# Altium footprint library 器件封装.PCBLIB: 225 footprints (part 1 of 15)
Each footprint in its own frame and in the unit in brackets; x right, y up, seen from the top. Pads: shape width x height; smd on the part's side, far side on the other; paste and mask are expansions set on the pad; w line width, h text height; cw(c..) or ccw(c..) is an arc to the next point about the centre after c.
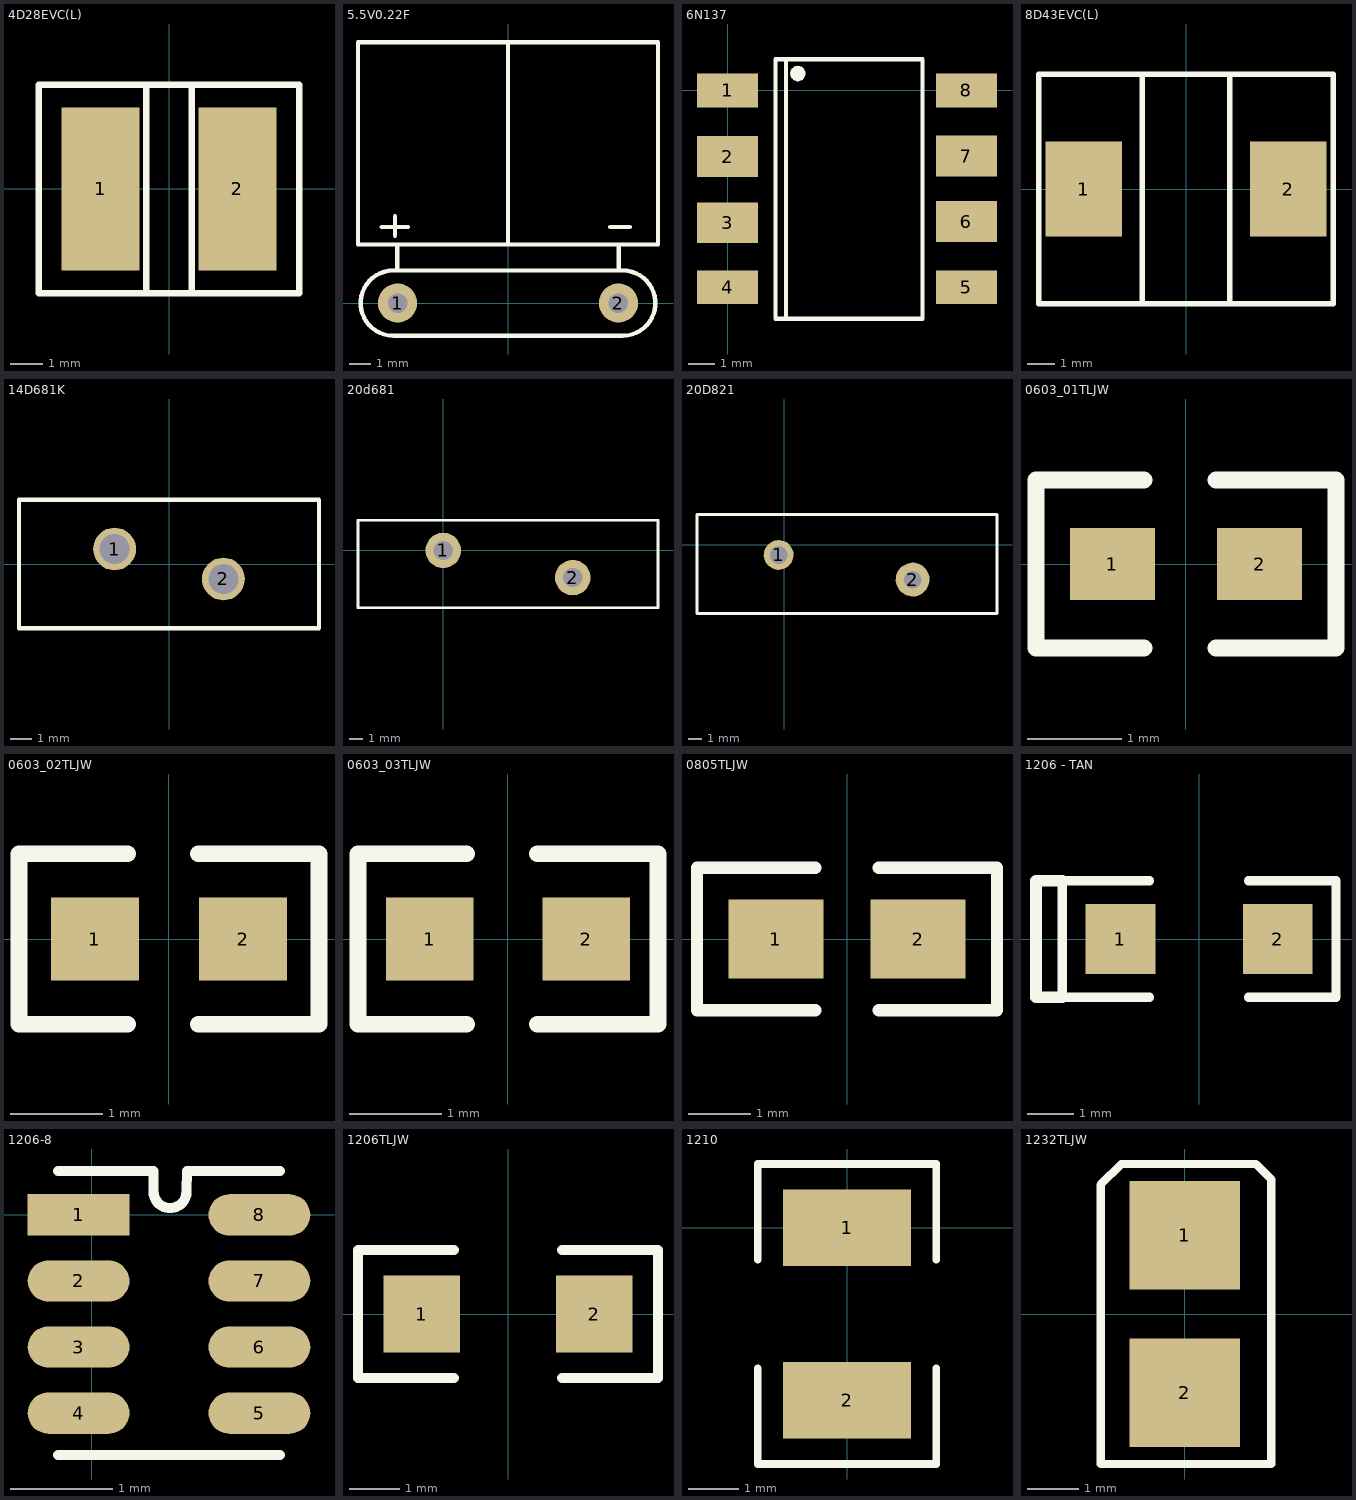
[diagram p0: the footprints below, top view; thin cyan lines are the x and y axes]

## 4D28EVC(L) [mm]
pads (2):
  rect 2.4x5 smd: 1(-2.1,0) 2(2.1,0)
TopOverlay:
  lines w0.2: -0.7,-3.2 -0.7,3.2 ; 0.7,-3.2 0.7,3.2 ; -4,-3.2 4,-3.2 4,3.2 -4,3.2 -4,-3.2

## 5.5V0.22F [mm]
pads (2):
  round 1.8 hole 0.9: 1(-5.08,0) 2(5.08,0)
TopOverlay:
  lines w0.2: -5.8,3.5 -4.6,3.5 ; -5.2,3.1 -5.2,4 ; -5.1,1.5 -5.1,2.7 ; 0,2.8 0,12 ; 4.7,3.5 5.6,3.5 ; 5.1,1.5 5.1,2.7 ; -6.9,2.7 6.9,2.7 6.9,12 -6.9,12 -6.9,2.7 ; -5.28,-1.5 cw(c-5.28,0) -5.28,1.5 5.28,1.5 cw(c5.28,0) 5.28,-1.5 -5.28,-1.5

## 6N137 [mm]
pads (9):
  rect 2.35x1.3 smd: 1(0,0) 4(0,-7.56) 5(9.17,-7.56) 8(9.17,0)
  rect 2.35x1.57 smd: 2(0,-2.54) 3(0,-5.08) 6(9.17,-5.04) 7(9.17,-2.52)
  round 0.6 on Top Overlay: ""(2.7,0.65)
TopOverlay:
  lines w0.16: 1.84,-8.77 1.84,1.2 7.47,1.2 ; 1.86,-8.77 7.48,-8.77 ; 2.24,-8.77 2.24,1.18 ; 7.49,-8.77 7.49,1.2

## 8D43EVC(L) [mm]
pads (2):
  rect 2.8x3.5 smd: 1(-3.75,0) 2(3.75,0)
TopOverlay:
  lines w0.2: -1.6,-4.2 -1.6,4.2 ; 1.6,-4.2 1.6,4.2 ; -5.4,-4.2 -5.4,4.2 5.4,4.2 5.4,-4.2 -5.4,-4.2

## 14D681K [mm]
pads (2):
  round 2 hole 1.4: 1(-2.54,0.7) 2(2.54,-0.7)
TopOverlay:
  lines w0.2: -7,-3 7,-3 7,3 -7,3 -7,-3

## 20d681 [mm]
pads (2):
  round 2.6 hole 1.4: 1(0,0) 2(9.5,-2)
TopOverlay:
  lines w0.2: -6.25,-4.2 15.75,-4.2 15.75,2.2 -6.25,2.2 -6.25,-4.2

## 20D821 [mm]
pads (2):
  round 2.2 hole 1.3: 1(-0.399,-0.764)
  round 2.5 hole 1.3: 2(9.489,-2.584)
TopOverlay:
  lines w0.2: -6.423,-5.081 15.715,-5.081 15.715,2.219 -6.423,2.219 -6.423,-5.081

## 0603_01TLJW [mm]
pads (2):
  rect 0.9x0.762 smd: 1(-0.78,0) 2(0.78,0)
TopOverlay:
  lines w0.18: -0.445,-0.889 -1.587,-0.889 -1.587,0.889 -0.445,0.889 ; 0.318,-0.889 1.588,-0.889 1.588,0.889 0.318,0.889

## 0603_02TLJW [mm]
pads (2):
  rect 0.95x0.9 smd: 1(-0.8,0) 2(0.8,0)
TopOverlay:
  lines w0.18: -0.444,-0.92 -1.62,-0.92 -1.62,0.92 -0.444,0.92 ; 0.318,-0.92 1.62,-0.92 1.62,0.92 0.318,0.92

## 0603_03TLJW [mm]
pads (2):
  rect 0.95x0.9 smd: 1(-0.845,0) 2(0.845,0)
TopOverlay:
  lines w0.18: -0.444,-0.92 -1.62,-0.92 -1.62,0.92 -0.444,0.92 ; 0.318,-0.92 1.62,-0.92 1.62,0.92 0.318,0.92

## 0805TLJW [mil]
pads (2):
  rect 60x50 smd: 1(-45,0) 2(45,0)
TopOverlay:
  lines w7.87: -20,-45 -95,-45 -95,45 -20,45 ; 20,-45 95,-45 95,45 20,45

## 1206 - TAN [mil]
pads (2):
  rect 60x60 smd: 1(-67.5,0) 2(67.5,0)
TopOverlay:
  lines w7.87: -42.5,-50 -117.5,-50 -117.5,50 -42.5,50 ; 42.5,-50 117.5,-50 117.5,50 42.5,50
  lines w10: -117.5,-50 -140,-50 -140,50 -117.5,50

## 1206-8 [mm]
pads (8):
  rect 1x0.406 smd: 1(-0.127,0)
  oval 1x0.406 smd: 2(-0.127,-0.65) 3(-0.127,-1.3) 4(-0.127,-1.95) 5(1.651,-1.95) 6(1.651,-1.3) 7(1.651,-0.65) 8(1.651,0)
TopOverlay:
  lines w0.1: -0.33,-2.362 1.854,-2.362 ; -0.33,0.432 0.61,0.432 0.61,0.229 ccw(c0.772,0.229) 0.935,0.229 0.94,0.432 1.854,0.432

## 1206TLJW [mil]
pads (2):
  rect 60x60 smd: 1(-67.5,0) 2(67.5,0)
TopOverlay:
  lines w7.87: -42.5,-50 -117.5,-50 -117.5,50 -42.5,50 ; 42.5,-50 117.5,-50 117.5,50 42.5,50

## 1210 [mil]
pads (2):
  rect 100x60 smd: 1(0,0) 2(0,-135)
TopOverlay:
  lines w6: -70,-110 -70,-185 70,-185 70,-110 ; -70,-25 -70,50 70,50 70,-25

## 1232TLJW [mm]
pads (2):
  rect 2.132x2.1 smd: 1(0,1.524) 2(0,-1.524)
TopOverlay:
  lines w0.16: -1.628,-2.9 1.672,-2.9 1.672,2.6 1.372,2.9 -1.168,2.9 -1.228,2.9 -1.628,2.5 -1.628,-2.9